# EAGLE library part CC2650 (library My_TI)
CC2650 edit this description Auto generated by make-symbol-device-package-bsdl.ulp Rev. 43 Source: CC2650.txt
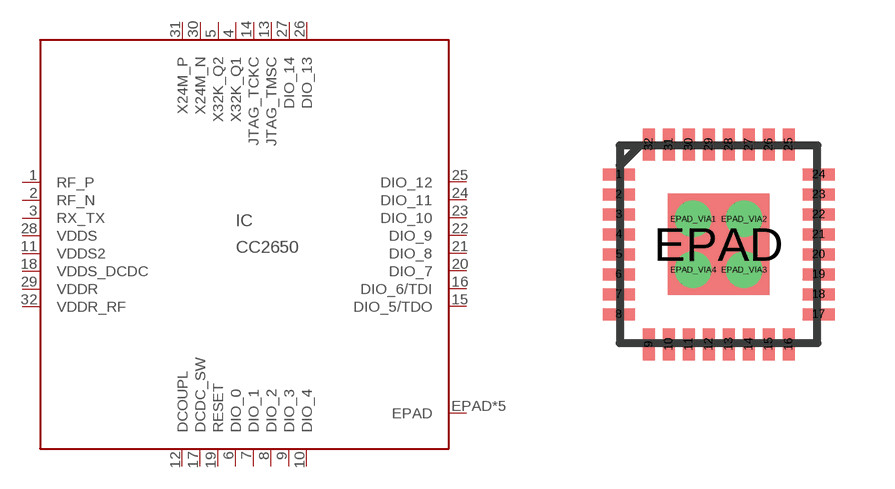
[diagram p2: symbol with the pads of QFN32; footprint QFN32]

Designator prefix IC

## CC2650  [QFN32]
1  RF_P
2  RF_N
3  RX_TX
4  X32K_Q1
5  X32K_Q2
6  DIO_0
7  DIO_1
8  DIO_2
9  DIO_3
10  DIO_4
11  VDDS2  pwr
12  DCOUPL  pwr
13  JTAG_TMSC
14  JTAG_TCKC
15  DIO_5/TDO
16  DIO_6/TDI
17  DCDC_SW  pwr
18  VDDS_DCDC  pwr
19  RESET
20  DIO_7
21  DIO_8
22  DIO_9
23  DIO_10
24  DIO_11
25  DIO_12
26  DIO_13
27  DIO_14
28  VDDS  pwr
29  VDDR  pwr
30  X24M_N
31  X24M_P
32  VDDR_RF  pwr
EPAD  EPAD
EPAD_VIA1  EPAD
EPAD_VIA2  EPAD
EPAD_VIA3  EPAD
EPAD_VIA4  EPAD

## Footprint QFN32 (pad centres in mm)
QFN32 Auto generated by make-symbol-device-package-bsdl.ulp Rev. 43
smd 0.8 x 0.3: 1 -2.5,1.75; 2 -2.5,1.25; 3 -2.5,0.75; 4 -2.5,0.25; 5 -2.5,-0.25; 6 -2.5,-0.75; 7 -2.5,-1.25; 8 -2.5,-1.75; 17 2.5,-1.75; 18 2.5,-1.25; 19 2.5,-0.75; 20 2.5,-0.25; 21 2.5,0.25; 22 2.5,0.75; 23 2.5,1.25; 24 2.5,1.75
smd 0.3 x 0.8: 9 -1.75,-2.5; 10 -1.25,-2.5; 11 -0.75,-2.5; 12 -0.25,-2.5; 13 0.25,-2.5; 14 0.75,-2.5; 15 1.25,-2.5; 16 1.75,-2.5; 25 1.75,2.5; 26 1.25,2.5; 27 0.75,2.5; 28 0.25,2.5; 29 -0.25,2.5; 30 -0.75,2.5; 31 -1.25,2.5; 32 -1.75,2.5
smd 2.54 x 2.54: EPAD 0,0
drill 0.4: EPAD_VIA1 -0.635,0.635; EPAD_VIA2 0.635,0.635; EPAD_VIA3 0.635,-0.635; EPAD_VIA4 -0.635,-0.635